# EAGLE library part W25Q256FV (library W25Q256FV)
W25Q256FV - Winbond : 16-Pin SOIC 300-mil (Package Code F)
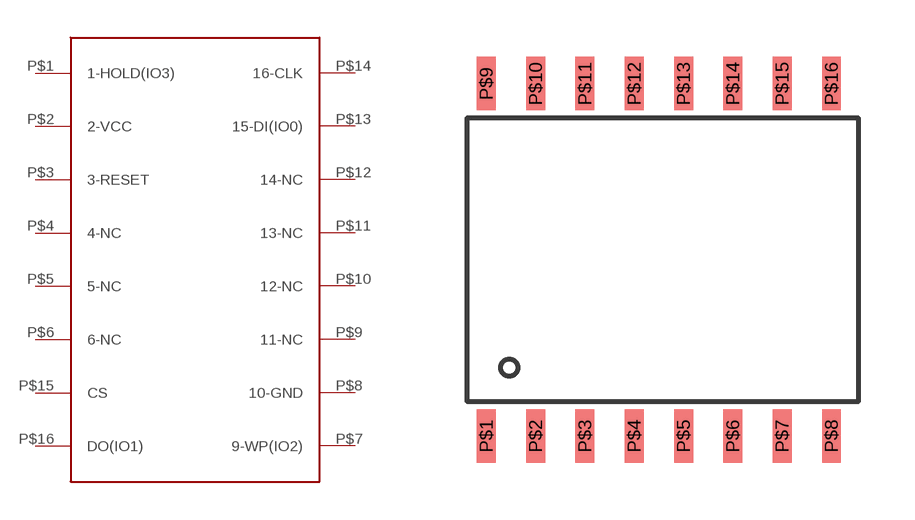
[diagram p0: symbol with the pads of W25Q256FV; footprint W25Q256FV]

Designator prefix -

## W25Q256FV  [W25Q256FV]
P$1  1-HOLD(IO3)
P$2  2-VCC
P$3  3-RESET
P$4  4-NC
P$5  5-NC
P$6  6-NC
P$7  9-WP(IO2)
P$8  10-GND
P$9  11-NC
P$10  12-NC
P$11  13-NC
P$12  14-NC
P$13  15-DI(IO0)
P$14  16-CLK
P$15  CS
P$16  DO(IO1)

## Footprint W25Q256FV (pad centres in mm)
smd 0.5 x 1.41: P$1 -5.5,-5.8; P$2 -4.2,-5.8; P$3 -2.9,-5.8; P$4 -1.6,-5.8; P$5 -0.3,-5.8; P$6 1,-5.8; P$7 2.3,-5.8; P$8 3.6,-5.8; P$9 -5.5,3.5; P$10 -4.2,3.5; P$11 -2.9,3.5; P$12 -1.6,3.5; P$13 -0.3,3.5; P$14 1,3.5; P$15 2.3,3.5; P$16 3.6,3.5